# Altium footprint library PcbLib1.PcbLib: 26 footprints (part 1 of 2)
Each footprint in its own frame and in the unit in brackets; x right, y up, seen from the top. Pads: shape width x height; smd on the part's side, far side on the other; paste and mask are expansions set on the pad; w line width, h text height; cw(c..) or ccw(c..) is an arc to the next point about the centre after c.
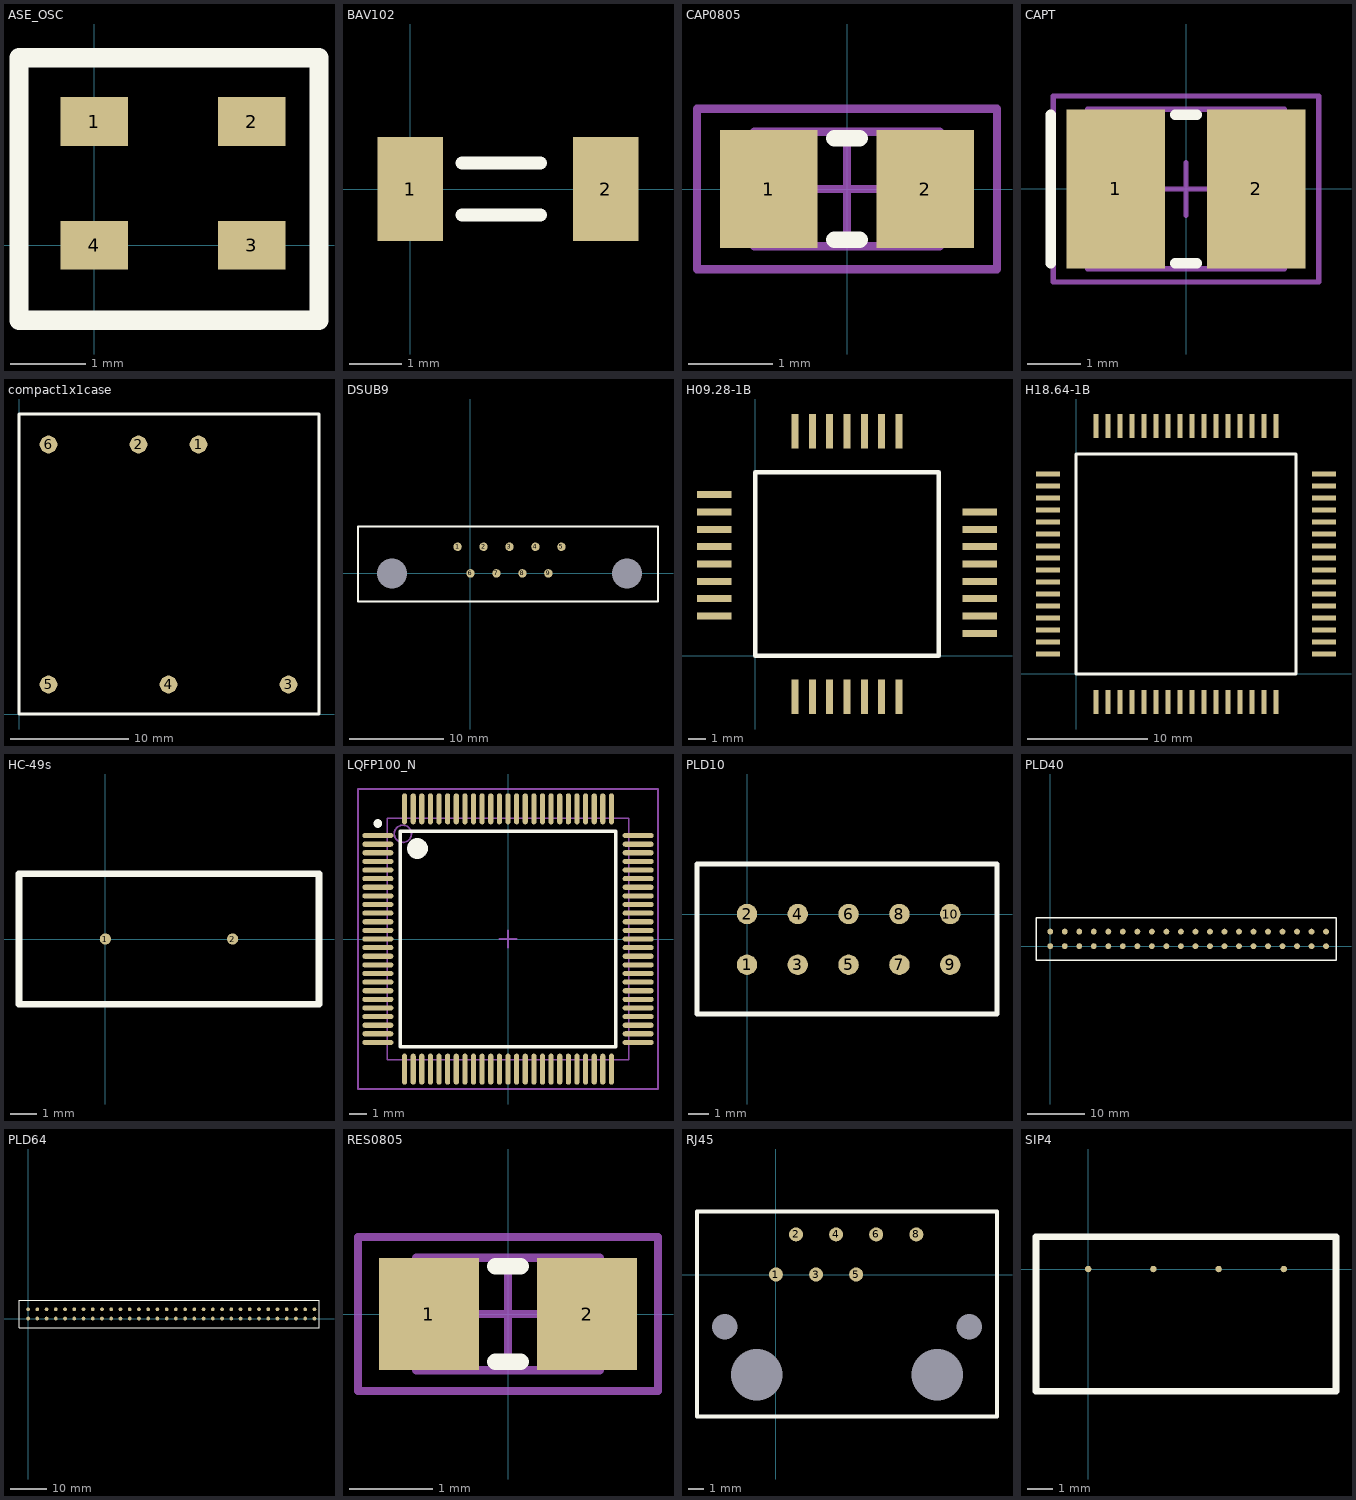
[diagram p0: the footprints below, top view; thin cyan lines are the x and y axes]

## ASE_OSC [mm]
height 1.2
pads (4):
  rect 0.9x0.65 all layers, no hole: 1(0,1.65) 2(2.1,1.65) 3(2.1,0) 4(0,0)
Top Overlay:
  lines w0.254: -1,-1 -1,2.5 3,2.5 3,-1 -1,-1

## BAV102 [mm]
height 1.6
pads (2):
  rect 1.25x2 all layers, no hole: 1(0,0) 2(3.75,0)
Top Overlay:
  lines w0.254: 1,-0.5 2.5,-0.5 ; 1,0.5 2.5,0.5

## CAP0805 [mm] "Chip Capacitor, 2-Leads, Body 2,0x1,3mm, IPC Medium Density"
height 0.7
pads (2):
  rect 1.15x1.4 smd: 1(-0.925,0) 2(0.925,0)
Top Overlay:
  lines w0.2: -0.15,-0.6 0.15,-0.6 ; -0.15,0.6 0.15,0.6
Mechanical 13:
  lines w0.1: -1.1,-0.675 -1.1,0.675 1.1,0.675 1.1,-0.675 -1.1,-0.675
Mechanical 15:
  lines w0.1: -0.5,0 0.5,0 ; 0,-0.5 0,0.5 ; -1.775,-0.95 -1.775,0.95 1.775,0.95 1.775,-0.95 -1.775,-0.95
3D body: height 0.7, standoff 0, extent -1.1,-0.675 1.1,0.675

## CAPT [mm] "Chip Capacitor, 2-Leads, Body 3,5x2,8mm, IPC Medium Density"
height 2.1
pads (2):
  rect 1.85x3 smd: 1(-1.325,0) 2(1.325,0)
Top Overlay:
  lines w0.2: -2.55,-1.4 -2.55,1.4 ; -0.2,-1.4 0.2,-1.4 ; -0.2,1.4 0.2,1.4
Mechanical 13:
  lines w0.1: -1.85,-1.5 1.85,-1.5 1.85,1.5 -1.85,1.5 -1.85,-1.5
Mechanical 15:
  lines w0.1: -0.5,0 0.5,0 ; 0,-0.5 0,0.5 ; -2.5,-1.75 2.5,-1.75 2.5,1.75 -2.5,1.75 -2.5,-1.75
3D body: height 2.1, standoff 0, extent -1.85,-1.5 1.85,1.5

## compact1x1case [mm] "THL 10-2410WI/10-2411WI"
height 16.2
pads (6):
  round 1.5 all layers, no hole: 1(15.2,22.82) 2(10.12,22.82) 3(22.82,2.5) 4(12.66,2.5) 5(2.5,2.5) 6(2.5,22.82)
Top Overlay:
  lines w0.254: 0,0 25.4,0 25.4,25.4 0,25.4 0,0

## DSUB9 [mm]
height 12.5
pads (11):
  round 0 hole 3.2: 0(-8.39,0) 0(16.71,0)
  round 0.9 all layers, no hole: 1(-1.38,2.84) 2(1.39,2.84) 3(4.16,2.84) 4(6.93,2.84) 5(9.7,2.84) 6(0,0) 7(2.77,0) 8(5.54,0) 9(8.31,0)
Top Overlay:
  lines w0.254: -12,-3 20,-3 20,5 -12,5 -12,-3

## H09.28-1B [mm] "5559ÈÍ13Ó"
height 3
pads (30):
  rect 2x0.4 all layers, no hole: 0(-2.35,9.3) 0(12.95,1.3) 1(-2.35,4.3) 2(-2.35,3.3) 3(-2.35,2.3) 11(12.95,2.3) 12(12.95,3.3) 13(12.95,4.3) 14(12.95,5.3) 15(12.95,6.3) 16(12.95,7.3) 17(12.95,8.3) 25(-2.35,8.3) 26(-2.35,7.3) 27(-2.35,6.3) 28(-2.35,5.3)
  rect 0.4x2 all layers, no hole: 4(2.3,-2.35) 5(3.3,-2.35) 6(4.3,-2.35) 7(5.3,-2.35) 8(6.3,-2.35) 9(7.3,-2.35) 10(8.3,-2.35) 18(8.3,12.95) 19(7.3,12.95) 20(6.3,12.95) 21(5.3,12.95) 22(4.3,12.95) 23(3.3,12.95) 24(2.3,12.95)
Top Overlay:
  lines w0.254: 0,0 10.6,0 10.6,10.6 0,10.6 0,0

## H18.64-1B [mm] "Í1582ÂÆ3Â-042"
height 3
pads (64):
  rect 2x0.4 all layers, no hole: 1(-2.35,8.65) 2(-2.35,7.65) 3(-2.35,6.65) 4(-2.35,5.65) 5(-2.35,4.65) 6(-2.35,3.65) 7(-2.35,2.65) 8(-2.35,1.65) 25(20.65,1.65) 26(20.65,2.65) 27(20.65,3.65) 28(20.65,4.65) 29(20.65,5.65) 30(20.65,6.65) 31(20.65,7.65) 32(20.65,8.65) 33(20.65,9.65) 34(20.65,10.65) 35(20.65,11.65) 36(20.65,12.65) 37(20.65,13.65) 38(20.65,14.65) 39(20.65,15.65) 40(20.65,16.65) 57(-2.35,16.65) 58(-2.35,15.65) 59(-2.35,14.65) 60(-2.35,13.65) 61(-2.35,12.65) 62(-2.35,11.65) 63(-2.35,10.65) 64(-2.35,9.65)
  rect 0.4x2 all layers, no hole: 9(1.65,-2.35) 10(2.65,-2.35) 11(3.65,-2.35) 12(4.65,-2.35) 13(5.65,-2.35) 14(6.65,-2.35) 15(7.65,-2.35) 16(8.65,-2.35) 17(9.65,-2.35) 18(10.65,-2.35) 19(11.65,-2.35) 20(12.65,-2.35) 21(13.65,-2.35) 22(14.65,-2.35) 23(15.65,-2.35) 24(16.65,-2.35) 41(16.65,20.65) 42(15.65,20.65) 43(14.65,20.65) 44(13.65,20.65) 45(12.65,20.65) 46(11.65,20.65) 47(10.65,20.65) 48(9.65,20.65) 49(8.65,20.65) 50(7.65,20.65) 51(6.65,20.65) 52(5.65,20.65) 53(4.65,20.65) 54(3.65,20.65) 55(2.65,20.65) 56(1.65,20.65)
Top Overlay:
  lines w0.254: 0,0 18.3,0 18.3,18.3 0,18.3 0,0

## HC-49s [mm]
height 17
pads (2):
  round 0.43 all layers, no hole: 1(0,0) 2(4.88,0)
Top Overlay:
  lines w0.254: -3.31,-2.5 8.19,-2.5 8.19,2.5 -3.31,2.5 -3.31,0 -3.31,-2.5

## LQFP100_N [mm] "STM32F107VCT6"
height 1.6
pads (100):
  oval 1.8x0.3 smd: 1(-7.55,6) 2(-7.55,5.5) 3(-7.55,5) 4(-7.55,4.5) 5(-7.55,4) 6(-7.55,3.5) 7(-7.55,3) 8(-7.55,2.5) 9(-7.55,2) 10(-7.55,1.5) 11(-7.55,1) 12(-7.55,0.5) 13(-7.55,0) 14(-7.55,-0.5) 15(-7.55,-1) 16(-7.55,-1.5) 17(-7.55,-2) 18(-7.55,-2.5) 19(-7.55,-3) 20(-7.55,-3.5) 21(-7.55,-4) 22(-7.55,-4.5) 23(-7.55,-5) 24(-7.55,-5.5) 25(-7.55,-6) 51(7.55,-6) 52(7.55,-5.5) 53(7.55,-5) 54(7.55,-4.5) 55(7.55,-4) 56(7.55,-3.5) 57(7.55,-3) 58(7.55,-2.5) 59(7.55,-2) 60(7.55,-1.5) 61(7.55,-1) 62(7.55,-0.5) 63(7.55,0) 64(7.55,0.5) 65(7.55,1) 66(7.55,1.5) 67(7.55,2) 68(7.55,2.5) 69(7.55,3) 70(7.55,3.5) 71(7.55,4) 72(7.55,4.5) 73(7.55,5) 74(7.55,5.5) 75(7.55,6)
  oval 0.3x1.8 smd: 26(-6,-7.55) 27(-5.5,-7.55) 28(-5,-7.55) 29(-4.5,-7.55) 30(-4,-7.55) 31(-3.5,-7.55) 32(-3,-7.55) 33(-2.5,-7.55) 34(-2,-7.55) 35(-1.5,-7.55) 36(-1,-7.55) 37(-0.5,-7.55) 38(0,-7.55) 39(0.5,-7.55) 40(1,-7.55) 41(1.5,-7.55) 42(2,-7.55) 43(2.5,-7.55) 44(3,-7.55) 45(3.5,-7.55) 46(4,-7.55) 47(4.5,-7.55) 48(5,-7.55) 49(5.5,-7.55) 50(6,-7.55) 76(6,7.55) 77(5.5,7.55) 78(5,7.55) 79(4.5,7.55) 80(4,7.55) 81(3.5,7.55) 82(3,7.55) 83(2.5,7.55) 84(2,7.55) 85(1.5,7.55) 86(1,7.55) 87(0.5,7.55) 88(0,7.55) 89(-0.5,7.55) 90(-1,7.55) 91(-1.5,7.55) 92(-2,7.55) 93(-2.5,7.55) 94(-3,7.55) 95(-3.5,7.55) 96(-4,7.55) 97(-4.5,7.55) 98(-5,7.55) 99(-5.5,7.55) 100(-6,7.55)
Top Overlay:
  circle w0.25: c-7.55,6.7 r0.125
  circle w0.6: c-5.25,5.25 r0.3
  lines w0.2: -6.25,-6.25 -6.25,6.25 6.25,6.25 6.25,-6.25 -6.25,-6.25
Mechanical 13:
  circle w0.1: c-6.1,6.1 r0.5
  lines w0.1: -7,-7 -7,7 7,7 7,-7 -7,-7
Mechanical 15:
  lines w0.1: -0.5,0 0.5,0 ; 0,-0.5 0,0.5 ; -8.7,-8.7 -8.7,8.7 8.7,8.7 8.7,-8.7 -8.7,-8.7
3D body: height 1.6, standoff 0, extent -7,-7 7,7

## PLD10 [mm]
height 9
pads (10):
  round 1.02 all layers, no hole: 1(0,-2.54) 2(0,0) 3(2.54,-2.54) 4(2.54,0) 5(5.08,-2.54) 6(5.08,0) 7(7.62,-2.54) 8(7.62,0) 9(10.16,-2.54) 10(10.16,0)
Top Overlay:
  region: 2.5,-2
  region: 2.5,-2
  lines w0.254: -2.5,-5 12.5,-5 12.5,2.5 -2.5,2.5 -2.5,-5

## PLD40 [mm]
height 9
pads (40):
  round 1.02 all layers, no hole: 1(0,0) 2(0,2.54) 3(2.54,0) 4(2.54,2.54) 5(5.08,0) 6(5.08,2.54) 7(7.62,0) 8(7.62,2.54) 9(10.16,0) 10(10.16,2.54) 11(12.7,0) 12(12.7,2.54) 13(15.24,0) 14(15.24,2.54) 15(17.78,0) 16(17.78,2.54) 17(20.32,0) 18(20.32,2.54) 19(22.86,0) 20(22.86,2.54) 21(25.4,0) 22(25.4,2.54) 23(27.94,0) 24(27.94,2.54) 25(30.48,0) 26(30.48,2.54) 27(33.02,0) 28(33.02,2.54) 29(35.56,0) 30(35.56,2.54) 31(38.1,0) 32(38.1,2.54) 33(40.64,0) 34(40.64,2.54) 35(43.18,0) 36(43.18,2.54) 37(45.72,0) 38(45.72,2.54) 39(48.26,0) 40(48.26,2.54)
Top Overlay:
  lines w0.254: -2.5,-2.5 -2.5,5 50,5 50,-2.5 -2.5,-2.5

## PLD64 [mm]
height 9
pads (64):
  round 1.02 all layers, no hole: 1(0,0) 2(0,2.54) 3(2.54,0) 4(2.54,2.54) 5(5.08,0) 6(5.08,2.54) 7(7.62,0) 8(7.62,2.54) 9(10.16,0) 10(10.16,2.54) 11(12.7,0) 12(12.7,2.54) 13(15.24,0) 14(15.24,2.54) 15(17.78,0) 16(17.78,2.54) 17(20.32,0) 18(20.32,2.54) 19(22.86,0) 20(22.86,2.54) 21(25.4,0) 22(25.4,2.54) 23(27.94,0) 24(27.94,2.54) 25(30.48,0) 26(30.48,2.54) 27(33.02,0) 28(33.02,2.54) 29(35.56,0) 30(35.56,2.54) 31(38.1,0) 32(38.1,2.54) 33(40.64,0) 34(40.64,2.54) 35(43.18,0) 36(43.18,2.54) 37(45.72,0) 38(45.72,2.54) 39(48.26,0) 40(48.26,2.54) 41(50.8,0) 42(50.8,2.54) 43(53.34,0) 44(53.34,2.54) 45(55.88,0) 46(55.88,2.54) 47(58.42,0) 48(58.42,2.54) 49(60.96,0) 50(60.96,2.54) 51(63.5,0) 52(63.5,2.54) 53(66.04,0) 54(66.04,2.54) 55(68.58,0) 56(68.58,2.54) 57(71.12,0) 58(71.12,2.54) 59(73.66,0) 60(73.66,2.54) 61(76.2,0) 62(76.2,2.54) 63(78.74,0) 64(78.74,2.54)
Top Overlay:
  lines w0.254: -2.5,-2.5 -2.5,5 80,5 80,-2.5 -2.5,-2.5

## RES0805 [mm] "Chip Resistor, 2-Leads, Body 2,0x1,3mm, IPC Medium Density"
height 0.7
pads (2):
  rect 1.2x1.35 smd: 1(-0.95,0) 2(0.95,0)
Top Overlay:
  lines w0.2: -0.15,-0.575 0.15,-0.575 ; -0.15,0.575 0.15,0.575
Mechanical 13:
  lines w0.1: -1.1,-0.675 -1.1,0.675 1.1,0.675 1.1,-0.675 -1.1,-0.675
Mechanical 15:
  lines w0.1: -0.5,0 0.5,0 ; 0,-0.5 0,0.5 ; -1.8,-0.925 -1.8,0.925 1.8,0.925 1.8,-0.925 -1.8,-0.925
3D body: height 0.7, standoff 0, extent -1.1,-0.675 1.1,0.675

## RJ45 [mm]
height 14
pads (11):
  round 0 hole 1.6: 0(-3.25,-3.3) 0(12.24,-3.3)
  round 0 hole 3.25: 0(-1.22,-6.35) 0(10.21,-6.35)
  round 0.89 all layers, no hole: 1(0,0) 2(1.27,2.54) 3(2.54,0) 4(3.81,2.54) 5(5.08,0) 6(6.35,2.54) 8(8.89,2.54)
Top Overlay:
  lines w0.254: -5,-9 -5,4 14,4 14,-9 -5,-9

## SIP4 [mm] "P6AU"
height 13
pads (4):
  round 0.25 all layers, no hole: 1(0,0) 2(2.54,0) 3(5.08,0) 4(7.62,0)
Top Overlay:
  lines w0.254: -2.03,-4.75 -2.03,1.25 0,1.25 9.65,1.25 9.65,-4.75 -2.03,-4.75